# Altium schematic symbol library PowerSupplys.SchLib: 1 symbol
Pins are listed as number, name and electrical type; pins without a type are passive.

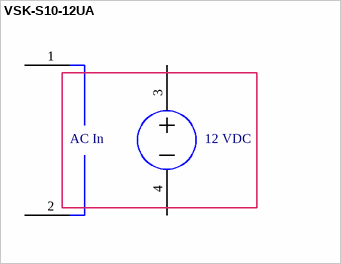
[diagram p0: symbol VSK-S10-12UA]

## VSK-S10-12UA
designator PSU?
AC/DC 12V Sealed PCB Mount Power Supply; ComponentLink1Description: Manufacturer Link; ComponentLink1URL: http://www.cui.com/; ComponentLink2Description: Datasheet; Value: 12V
footprint VSK-S10-12UA (AC_DC Power Supply)
footprint VSK-S10-12UA (AC_DC Power Supply)
pins: 1, 2, 3 (power), 4 (power)
text: AC In; 12 VDC